# Altium footprint library Relays.PcbLib: 3 footprints
Each footprint in its own frame and in the unit in brackets; x right, y up, seen from the top. Pads: shape width x height; smd on the part's side, far side on the other; paste and mask are expansions set on the pad; w line width, h text height; cw(c..) or ccw(c..) is an arc to the next point about the centre after c.
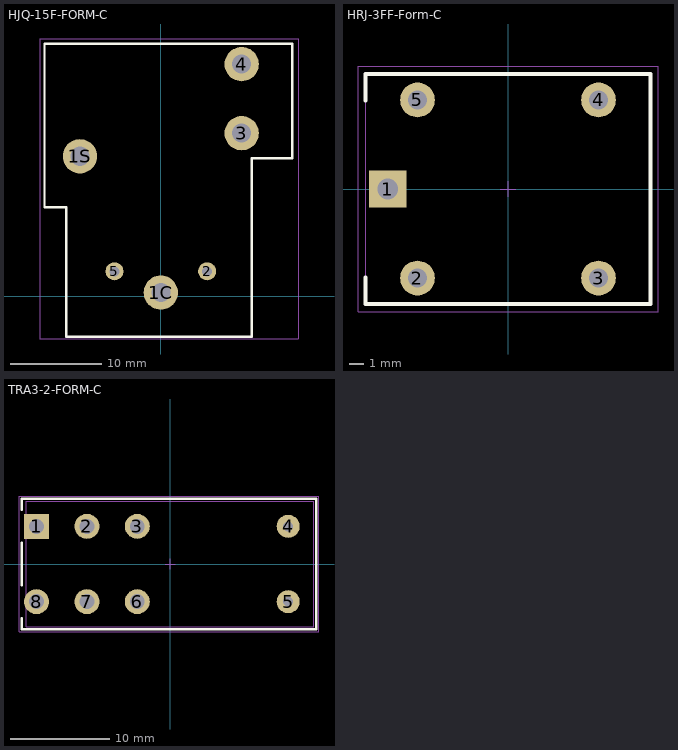
[diagram p0: the footprints below, top view; thin cyan lines are the x and y axes]

## HJQ-15F-FORM-C [mm]
pads (6):
  round 3.78 hole 2.1: 1C(0,0.404) 1S(-8.9,15.4) 3(8.9,17.94) 4(8.9,25.54)
  round 1.98 hole 1.1: 2(5.1,2.74) 5(-5.1,2.74)
Top Overlay:
  lines w0.254: -12.8,9.8 -10.4,9.8 -10.4,-4.445 10,-4.445 10,15.2 14.478,15.2 14.478,27.8 -12.8,27.8 -12.8,9.8
Top Courtyard (Mech4):
  lines w0.025: -13.308,-4.708 -13.308,28.308 15.108,28.308 15.108,-4.708 -13.308,-4.708
3D body "TIANBO HJQ-15F-S-Z.stp": height 20.2, standoff -4, extent -12.8,-4.4 14.4,27.8

## HRJ-3FF-Form-C [mm]
pads (5):
  rect 2.52x2.52 hole 1.4: 1(-8.1,0)
  round 2.34 hole 1.3: 2(-6.1,-6) 3(6.1,-6) 4(6.1,6) 5(-6.1,6)
Top Overlay:
  lines w0.254: -9.6,-5.969 -9.6,-7.75 9.6,-7.75 9.6,7.75 -9.6,7.75 -9.6,5.969
Top Courtyard (Mech4):
  lines w0.025: -10.108,-8.258 -10.108,8.258 10.108,8.258 10.108,-8.258 -10.108,-8.258
Top Assembly:
  lines w0.025: -0.508,0 0.508,0 ; 0,-0.508 0,0.508 ; -9.6,-7.75 -9.6,7.75 9.6,7.75 9.6,-7.75 -9.6,-7.75
3D body "ORWH-SH-105D1F,000--3DModel-STEP-56544.STEP": height 14.7, standoff -4.5, extent -9.6,-7.75 9.6,7.75

## TRA3-2-FORM-C [mm]
pads (8):
  rect 2.52x2.52 hole 1.5: 1(-13.48,3.8)
  round 2.52 hole 1.5: 2(-8.4,3.8) 3(-3.32,3.8) 6(-3.32,-3.8) 7(-8.4,-3.8) 8(-13.48,-3.8)
  round 2.32 hole 1: 4(11.9,3.8) 5(11.9,-3.8)
Top Overlay:
  lines w0.254: -14.986,-5.461 -14.986,-6.604 14.732,-6.604 14.732,6.604 -14.986,6.604 -14.986,5.461 ; -14.986,-2.159 -14.986,2.159
Top Courtyard (Mech4):
  lines w0.025: -15.248,-6.858 -15.248,6.858 15.008,6.858 15.008,-6.858 -15.248,-6.858
Top Assembly:
  lines w0.025: -0.508,0 0.508,0 ; 0,-0.508 0,0.508 ; -14.5,-6.35 -14.5,6.35 14.5,6.35 14.5,-6.35 -14.5,-6.35
3D body: height 20.4, standoff 0, extent -14.5,-6.35 14.5,6.35